# Altium schematic symbol library CMR_Resistors_Capacitors_and_Inductors.SchLib: 46 symbols
Pins are listed as number, name and electrical type; pins without a type are passive.

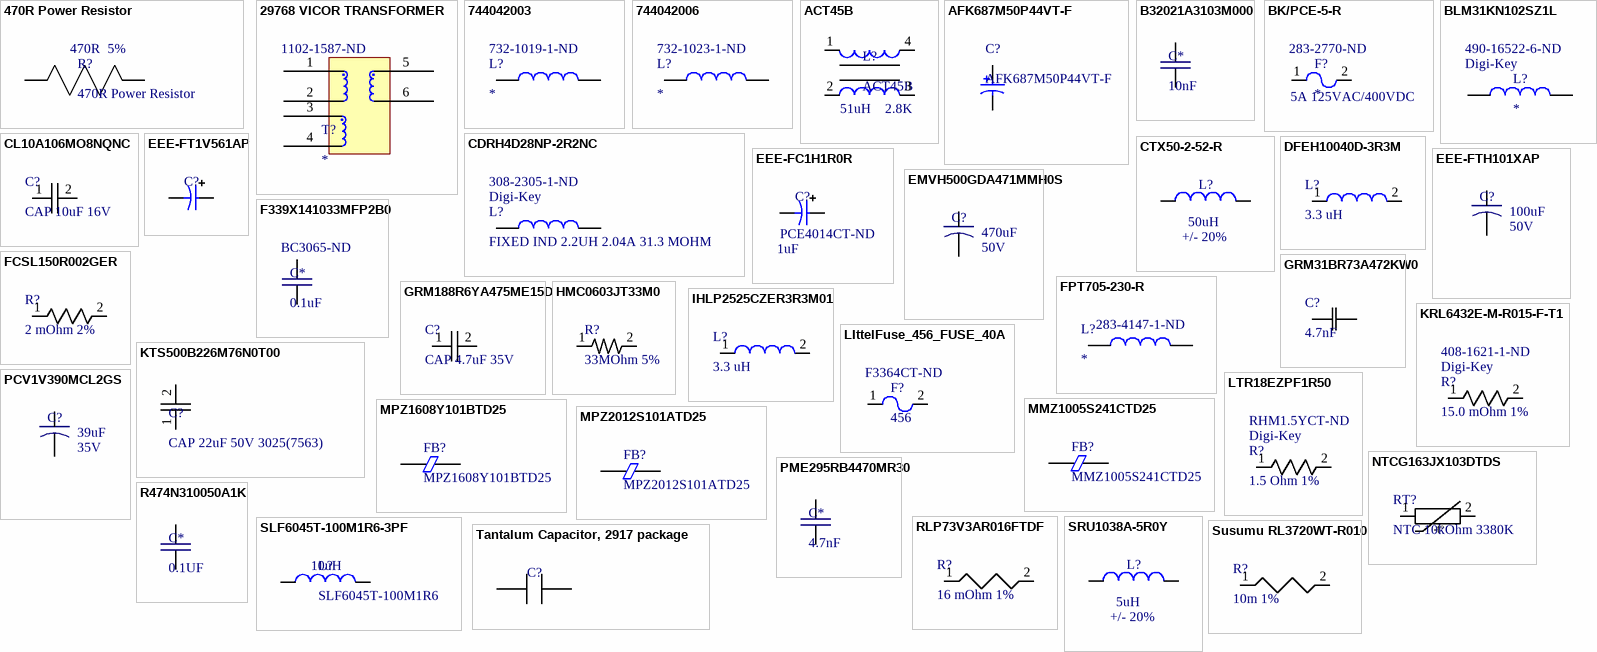
[diagram p0: symbols 470R Power Resistor to Tantalum Capacitor, 2917 package]

## 470R Power Resistor
designator R?  value 470R  Tolerance: 5%
Wirewound Chassis Mount Power Resistor, Aluminum Housed, 470R; Part Number: HSA50470RJ; Source Part Number: 279-HSA50470RJ; Manufacturer: TE Connectivity / CGS; Datasheet: http://www.mouser.com/ds/2/418/NG_DS_1773035_C-225595.pdf; Source: Mouser
footprint 470R Power Resistor (HSA50 Series Power Resistor)

## 29768 VICOR TRANSFORMER
designator T?  Supplier Part Number 1: 1102-1587-ND
PR TRANSFORMER; Supplier 1: Digi-Key
footprint 29768
pins: 1, 2 13, 3, 4, 5 55, 6

## 744042003
designator L?  Supplier Part Number 1: 732-1019-1-ND
FIXED IND 3.3UH 1.95A 65 MOHM; Supplier 1: Digi-Key
footprint WE-TPC_4818 (Power Inductor, SMD, 2-Leads, body 4.8x4.8mm)
pins: 1, 2

## 744042006
designator L?  Supplier Part Number 1: 732-1023-1-ND
FIXED IND 6.8UH 1.5A 100 MOHM; Supplier 1: Digi-Key
footprint WE-TPC_4818 (Power Inductor, SMD, 2-Leads, body 4.8x4.8mm)
pins: 1, 2

## ACT45B
designator L?  Inductance: 51uH  Impedance: 2.8K
CANBus Common Mode Choke (ACT45B); Datasheet: http://product.tdk.com/en/catalog/datasheets/e9711_act.pdf; Supplier 1: Digi-Key; Supplier Part Number 1: 445-3958-1-ND
footprint ACT45B (CANBus Common Mode Choke)
pins: 1, 2, 3, 4

## AFK687M50P44VT-F
designator C?
CAP ALUM 680UF 20% 50V SMD; ESR: 73 Ohm; Voltage: 50V; Capacitance: 680uF; Tolerance: 20%; Supplier 1: Mouser; Supplier 2: Digi-Key; Supplier Part Number 1: 598-AFK687M50P44VTF; Supplier Part Number 2: 338-4230-1-ND
footprint AFK687M50P44VT-F
pins: 1, 2

## B32021A3103M000
designator C*, comment 10nF
CAP FILM 10000PF 20% 1.5KVDC RAD; Supplier 1: Digi-Key; Supplier Part Number 1: 495-4077-ND
footprint B32021A3103M000
pins: 1, 2

## BK/PCE-5-R
designator F?  Supplier Part Number 1: 283-2770-ND
FUSE BOARD MNT 5A 125VAC/400VDC; Supplier 1: Digi-Key
footprint Axial 0.2
pins: 1, 2
text: 5A 125VAC/400VDC

## BLM31KN102SZ1L
designator L?  Supplier 1: Digi-Key  Supplier Part Number 1: 490-16522-6-ND
footprint BLM31KN102SZ1L
pins: 1, 2

## CDRH4D28NP-2R2NC
designator L?, comment FIXED IND 2.2UH 2.04A 31.3 MOHM  Supplier 1: Digi-Key  Supplier Part Number 1: 308-2305-1-ND
footprint CDRH4D28NP-2R2NC
pins: 1, 2

## CL10A106MO8NQNC
designator C?, comment CAP 10uF 16V
10µF ±20% 16V Ceramic Capacitor X5R 0603 (1608 Metric); ComponentLink1Description: Digikey; ComponentLink1URL: https://www.digikey.com/product-detail/en/samsung-electro-mechanics/CL10A106MO8NQNC/1276-1870-1-ND/3889956
footprint CAPC1608X10N (Chip Capacitor, 2-Leads, Body 1.60x0.80mm, IPC Medium Density)
pins: 1, 2

## CTX50-2-52-R
designator L?  Inductance: 50uH  Tolerance: +/- 20%  (hidden comment: *)
Fixed Inductor, 50uH, 4.9A; Part #: CTX50-2-52-R; Current Rating: 4.9A
footprint CTX50-2-52-R (Horizontal mounted fixed inductor)
pins: 1, 2

## DFEH10040D-3R3M
designator L?, comment 3.3 uH
Inductor 3.3 uH 10A 12 mOhm; ComponentLink1Description: digikey; ComponentLink1URL: https://www.digikey.com/product-detail/en/murata-electronics-north-america/DFEH10040D-3R3M=P3/490-13095-1-ND/5812807
footprint INDC109100X40N (Chip Inductor, 2-Leads, Body 10.90x10.00mm, IPC Medium Density)
pins: 1, 2

## EEE-FC1H1R0R
designator C?  value 1uF  Supplier Part Number 1: PCE4014CT-ND  (hidden comment: EEE-FC1H1R0R)
Cap 1uF, Aluminum, EEE-FC1H1R0R; Part Number: EEE-FC1H1R0R; Datasheet: http://www.farnell.com/datasheets/31718.pdf; Supplier 1: Digi-Key
footprint EEE-FC1H1R0R (Capacitor 1uF Aluminum Electrolytic)
pins: 1, 2

## EEE-FT1V561AP
designator C?  (value not drawn)
Cap 560uF, Aluminum, EEE-FT1V561AP; Voltage Rating: 35V; Part Number: EEE-FT1V561AP; Datasheet: http://industrial.panasonic.com/cdbs/www-data/pdf/RDE0000/ABA0000C35.pdf; Value: 560uF; Supplier 1: Digi-Key; Supplier Part Number 1: PCE5019CT-ND; ComponentLink1Description: Digikey Link; ComponentLink1URL: https://www.digikey.com/product-detail/en/panasonic-electronic-components/EEE-FT1V561AP/PCE5019CT-ND/2652074
footprint EEE-FT1V561AP (Capacitor 1uF Aluminum Electrolytic)
pins: 1, 2

## EEE-FTH101XAP
designator C?  Voltage Rating: 50V  Capacitance: 100uF  (hidden comment: *)
CAP ALUM 100UF 20% 50V SMD; Part #: EEE-FTH101XAP; Tolerance: +/- 20%
footprint CAP_EEFK_D8
pins: 1, 2

## EMVH500GDA471MMH0S
designator C?  Voltage Rating: 50V  Capacitance: 470uF  (hidden comment: *)
50V 470uF Capacitor; Part #: EMVH500GDA471MMH0S; Tolerance: +/- 20%
footprint EMVH500GDA471MMH0S (470uF 50V Capacitor)
pins: 1, 2

## F339X141033MFP2B0
designator C*, comment 0.1uF  Supplier Part Number 1: BC3065-ND
CAP FILM 0.1UF 20% 800VDC RADIAL; Supplier 1: Digi-Key
footprint F339X141033MFP2B0 (CAP FILM 0.1UF 20% 800VDC RADIAL)
pins: 1, 2

## FCSL150R002GER
designator R?, comment 2 mOhm 2%
2 mOhm 2% 10W Shunt; ComponentLink1Description: digikey; ComponentLink1URL: https://www.digikey.com/product-detail/en/ohmite/FCSL150R002GER/FCSL150R002GERCT-ND/4976431
footprint RESC75150X05N (Chip Resistor, 2-Leads, Body 7.50x15.00mm, IPC Medium Density)
pins: 1, 2

## FPT705-230-R
designator L?  Supplier Part Number 1: 283-4147-1-ND
FIXED IND 230NH 13A 0.65 MOHM; Supplier 1: Digi-Key
footprint 2727 (6868 Metric) (FIXED IND 230NH 13A 0.65 MOHM)
pins: 1, 3

## GRM31BR73A472KW0
designator C?, comment 4.7nF
1kv 4.7nF MLCC 1206 10%; Manufacturer_Part_Number: GRM31BR73A472KW01L; Vendor: Murata; C: Copyright (C) 2015 Accelerated Designs. All rights reserved; Copyright: Copyright (C) 2015 Accelerated Designs. All rights reserved; Value: Value
footprint G-31
pins: 1, 2

## GRM188R6YA475ME15D
designator C?, comment CAP 4.7uF 35V
4.7µF ±20% 35V Ceramic Capacitor X5R 0603 (1608 Metric); ComponentLink1Description: Digikey; ComponentLink1URL: https://www.digikey.com/product-detail/en/murata-electronics-north-america/GRM188R6YA475ME15D/490-11995-1-ND/5403152
footprint CAPC1608X10N (Chip Capacitor, 2-Leads, Body 1.60x0.80mm, IPC Medium Density)
pins: 1, 2

## HMC0603JT33M0
designator R?, comment 33MOhm 5%
33 MOhms ±5% 0.1W, 1/10W Chip Resistor 0603 (1608 Metric) Thick Film; ComponentLink1Description: Digikey; ComponentLink1URL: https://www.digikey.com/product-detail/en/stackpole-electronics-inc/HMC0603JT33M0/HMC0603JT33M0CT-ND/4756233
footprint RESC1608X06N (Chip Resistor, 2-Leads, Body 1.60x0.80mm, IPC Medium Density)
pins: 1, 2

## IHLP2525CZER3R3M01
designator L?, comment 3.3 uH
3.3µH Shielded Molded Inductor 6A 30 mOhm Max Nonstandard; ComponentLink1Description: Digikey; ComponentLink1URL: https://www.digikey.ca/product-detail/en/vishay-dale/IHLP2525CZER3R3M01/541-1009-1-ND/1680140
footprint INDM6565X30N (Molded Inductor, 2-Leads, Body 6.47x6.47mm, IPC Medium Density)
pins: 1, 2

## KRL6432E-M-R015-F-T1
designator R?, comment 15.0 mOhm 1%  Supplier 1: Digi-Key  Supplier Part Number 1: 408-1621-1-ND
15.0 mOhm 1% 3W Shunt; ComponentLink1Description: Digikey Link; ComponentLink1URL: https://www.digikey.com/product-detail/en/susumu/KRL6432E-M-R015-F-T1/408-1621-1-ND/3737803
footprint KRL6432E-M-R015-F-T1
pins: 1, 2

## KTS500B226M76N0T00
designator C?, comment CAP 22uF 50V 3025(7563)
CAP CER 22UF 50V X7R 3025; ComponentLink1Description: digikey; ComponentLink1URL: https://www.digikey.com/product-detail/en/united-chemi-con/KTS500B226M76N0T00/565-4700-1-ND/6210746
footprint CAPC7563X40N (Chip Capacitor, 2-Leads, Body 7.50x6.30mm, IPC Medium Density)
pins: 1, 2

## LIttelFuse_456_FUSE_40A
designator F?, comment 456  Supplier Part Number 1: F3364CT-ND
LittelFuse 456 Series Fuse 40A; Part Number: 0456040.DR; Breaking Capacity (A): >600 A; Vdc (max): 72 V; Min Ambient Temp (C): -55; Max Ambient Temp (C): 125; Rated Current: 40 A; Supplier 1: Digi-Key
footprint PCC-LTL-FUSE-456
pins: 1, 2

## LTR18EZPF1R50
designator R?, comment 1.5 Ohm 1%  Supplier 1: Digi-Key  Supplier Part Number 1: RHM1.5YCT-ND
1.5 Ohm 1% 1206 Shunt (Wide); ComponentLink1Description: Digikey Link; ComponentLink1URL: https://www.digikey.com/product-detail/en/rohm-semiconductor/LTR18EZPF1R50/RHM1.5YCT-ND/4055454
pins: 1, 2

## MMZ1005S241CTD25
designator FB?
Ferrite Bead, 0402, 400mA, 240 Ohm Impedance, 280mOhm DCR; Impedance @ 100 MHZ: 240 Ohm; Current: 400mA; DCR: 280 mOhm; Supplier 1: Digi-Key; Supplier 2: Mouser; Supplier 3: Digi-Key; Supplier 4: Digi-Key; Supplier Part Number 1: 445-172792-6-ND; Supplier Part Number 2: 810-MMZ1005S241CTD25; Supplier Part Number 3: 445-172792-2-ND; Supplier Part Number 4: 445-172792-1-ND
footprint PCC-TDK-MMZ1005 (Ferrite Bead, 2A, 0603, 100 Ohm Impedance, 40mOhm DCR)
pins: 1, 2

## MPZ1608Y101BTD25
designator FB?
Ferrite Bead, 0603, 2A, 100 Ohm Impedance, 40mOhm DCR; Impedance @ 100 MHZ: 100 Ohm; Current: 2A; DCR: 40 mOhm
footprint MPZ1608Y101BTD25 (Ferrite Bead, 2A, 0603, 100 Ohm Impedance, 40mOhm DCR)
pins: 1, 2

## MPZ2012S101ATD25
designator FB?
Ferrite Bead, 0805, 4A, 100 Ohm Impedance, 20mOhm DCR; Manufacturer: TDK Corporation; Impedance @ 100 MHZ: 100 Ohm; Current: 4A; DCR: 20 mOhm; Manufacturer Part Number: MPZ2012S101ATD25; Supplier 1: Digi-Key; Supplier Part Number 1: 445-172903-1-ND
footprint MPZ2012S101ATD25 (Ferrite Bead, 0805, 4A, 100 Ohm Impedance, 20mOhm DCR)
pins: 1, 2

## NTCG163JX103DTDS
designator RT?, comment NTC 10kOhm 3380K
NTC 10kOhm 3380K 0603; ComponentLink1Description: Digikey; ComponentLink1URL: https://www.digikey.com/product-detail/en/tdk-corporation/NTCG163JX103DTDS/445-174519-1-ND/5981622
footprint RESC1608X09N (Chip Resistor, 2-Leads, Body 1.60x0.80mm, IPC Medium Density)
pins: 1, 2
text: -t°

## PCV1V390MCL2GS
designator C?  Voltage Rating: 35V  Capacitance: 39uF  (hidden comment: *)
35V 39uF Capacitor; Part #: PCV1V390MCL2GS; Tolerance: +/- 20%
footprint PCV1V390MCL2GS (39uF 35V Capacitor)
pins: 1, 2

## PME295RB4470MR30
designator C*, comment 4.7nF
CAP FILM 4700PF 20% 1.5KVDC RAD; Supplier 1: Digi-Key; Supplier Part Number 1: 399-5920-ND
footprint PME295RB4470MR30
pins: 1, 2

## R474N310050A1K
designator C*, comment 0.1UF
CAP FILM 0.1UF 10% 1KVDC RADIAL; Supplier 1: Digi-Key; Supplier Part Number 1: 399-12723-ND
footprint R474N310050A1K
pins: 1, 2

## RLP73V3AR016FTDF
designator R?, comment 16 mOhm 1%
RES 0.016 OHM 1% 2W 2512; ComponentLink1Description: Digikey; ComponentLink1URL: https://www.digikey.com/product-detail/en/te-connectivity-passive-product/RLP73V3AR016FTDF/A109675CT-ND/4032441
footprint RESC6432X08N (Chip Resistor, 2-Leads, Body 6.35x3.15mm, IPC Medium Density)
pins: 1, 2

## SLF6045T-100M1R6-3PF
designator L?, comment SLF6045T-100M1R6  value 10uH
Fixed Indictuor 10uH 1.6A 39MΩ; Manufacturer: TDK Corporation; Manufacturer Part Number: 445-4573-1-ND; Datasheet: https://product.tdk.com/info/en/catalog/datasheets/inductor_commercial_power_slf6045_en.pdf; Amperage: 1.6A; Supplier 1: Digi-Key; Supplier Part Number 1: 445-4573-1-ND
footprint SLF6045T-100M1R6 (FIXED IND 10UH 1.6A 39 MOHM SMD)
pins: 1, 2

## SRU1038A-5R0Y
designator L?  Inductance: 5uH  Tolerance: +/- 20%  (hidden comment: *)
Fixed Inductor, 5uH, 4.8A; Part #: SRU1038A-5R0Y; Current Rating: 4.8A; Source: Mouser
footprint SRU1038A-5R0Y (5uH 4.8A Fixed Inductor)
pins: 1, 2

## Susumu RL3720WT-R010
designator R?, comment 10m 1%
0.01 ohm 1% 1 watt; ComponentLink1Description: digikey; ComponentLink1URL: https://www.digikey.com/product-detail/en/susumu/RL3720WT-R010-F/RL37WT.01FCT-ND/433208
footprint RL3720WT-R010
pins: 1, 2

## Tantalum Capacitor, 2917 package
designator C?  (value not drawn)
Tantalum Capacitor, 2917 Package
footprint 2917 Capacitor (Tantalum Capacitor 2917)
pins: 1, 2

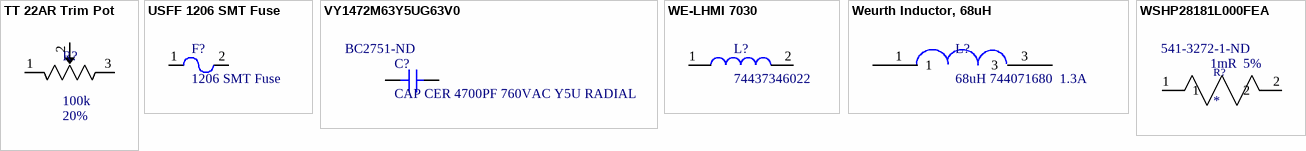
[diagram p1: symbols TT 22AR Trim Pot to WSHP28181L000FEA]

## TT 22AR Trim Pot
designator R?, comment value 100k  Tolerance: 20%  (hidden comment: 22AR100KLFTR)
TT Electronics BI 22AR100KLFTR SMT trim pot, 100k 20%; Supplier 1: Digi-Key; Supplier Part Number 1: 987-1003-1-ND; Datasheet: http://www.bitechnologies.com/pdfs/22.pdf
footprint TT BI 22A TRIM POT (Model 22A (22AR100KLFTR))
pins: 1, 2, 3

## USFF 1206 SMT Fuse
designator F?, comment 1206 SMT Fuse
Schurter 1206 SMT Fuse, 0.50mA, 63Vdc; Part Number: 3413.0002.11; Breaking Capacity (A): 100; Vdc (max): 63 V; Rated Current: 50 mA; Min Ambient Temp (C): -55; Max Ambient Temp (C): 90; Supplier 1: Mouser; Supplier Part Number 1: 693-3413.002.11
footprint 1206 SMT Fuse (for use with USFF 1206 Schurter Fuse)
pins: 1, 2

## VY1472M63Y5UG63V0
designator C?, comment CAP CER 4700PF 760VAC Y5U RADIAL  Supplier Part Number 1: BC2751-ND
Value: Value; Type: Type; RefDes: RefDes; Supplier 1: Digi-Key
footprint VISHAY Y5U
pins: 1, 2

## WE-LHMI 7030
designator L?, comment 74437346022
SMD Power Inductor WE-LHMI, L=2.2 µH; Value: 2.2uH; Supplier 1: Digi-Key; Supplier Part Number 1: 732-3372-1-ND; Part Number: 74437346022; Datasheet: http://katalog.we-online.de/kataloge/eisos/media/pdf/74437346022.pdf
footprint WE-LHMI 7030 (Weurth Power Inductor)
pins: 1, 2

## Weurth Inductor, 68uH
designator L?, comment 68uH 744071680  1.3A
744071680
footprint 744071680
pins: 1, 3

## WSHP28181L000FEA
designator R?  Supplier Part Number 1: 541-3272-1-ND
RES 0.001 OHM 1% 10W 2818; ComponentLink1Description: Digikey Link; ComponentLink1URL: https://www.digikey.com/product-detail/en/vishay-dale/WSHP28181L000FEA/541-3272-1-ND/6605248; Supplier 1: Digi-Key
footprint RESC7146X18L (Chip Resistor, 2-Leads, Body 7.10x4.60mm, IPC High Density)
pins: 1, 2
text: 1mR; 5%